# EAGLE library part REF33 (library ICs)
Voltage Reference Output Voltage: 2.5 V Initial Accuracy: 0.15 % Temperature Coefficient: 30 PPM / C Series VREF - Input Voltage - Max: 5.5 V Operating Temperature: from- 40 C to + 125 C
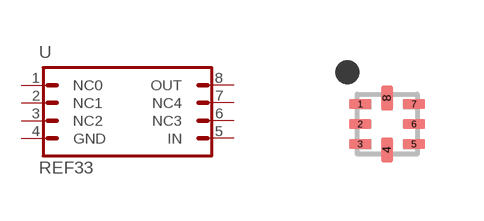
[diagram p6: symbol with the pads of RSE0008A; footprint RSE0008A]

Designator prefix U

## REF3325AIRSER  [RSE0008A]
1  NC0  pas
2  NC1  pas
3  NC2  pas
4  GND  pas
5  IN  pas
6  NC3  pas
7  NC4  pas
8  OUT  pas

## Footprint RSE0008A (pad centres in mm)
UQFN PLASTIC QUAD FLATPACK - NO LEAD
smd 0.55 x 0.25: 1 -0.675,0.5; 2 -0.675,0; 3 -0.675,-0.5; 5 0.675,-0.5; 6 0.675,0; 7 0.675,0.5
smd 0.3 x 0.6: 4 0,-0.65; 8 0,0.65